# EAGLE library part S-SMP (library apu_module)
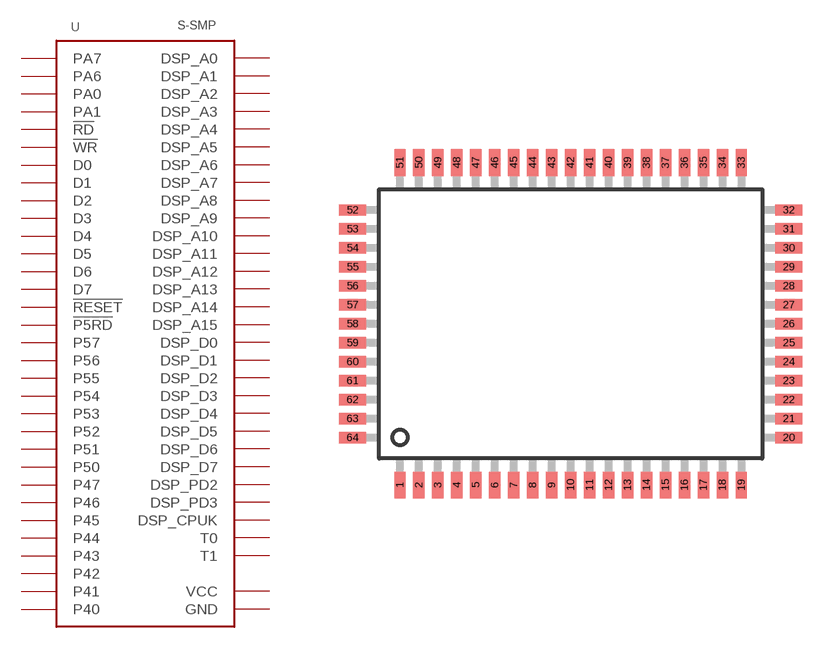
[diagram p0: symbol with the pads of QFP64_SOT319; footprint QFP64_SOT319]

Designator prefix -

## S-SMP  [QFP64_SOT319]
1  DSP_A4
2  DSP_A3
3  DSP_A2
4  DSP_A1
5  DSP_A0
6  DSP_D7
7  DSP_D6
8  DSP_D5
9  DSP_D4
10  DSP_D3
11  DSP_D2
12  DSP_D1
13  DSP_D0
14  DSP_PD3
15  DSP_PD2
16  DSP_CPUK
17  !P5RD
18  P57
19  P56
20  P55
21  P54
22  P53
23  P52
24  P51
25  P50
26  GND
27  P47
28  P46
29  P45
30  P44
31  P43
32  P42
33  P41
34  P40
35  T1
36  T0
37  !RESET
38  D7
39  D6
40  D5
41  D4
42  D3
43  D2
44  D1
45  D0
46  !RD
47  !WR
48  PA1
49  PA0
50  PA6
51  PA7
52  DSP_A15
53  DSP_A14
54  DSP_A13
55  DSP_A12
56  DSP_A11
57  VCC
58  GND
59  DSP_A10
60  DSP_A9
61  DSP_A8
62  DSP_A7
63  DSP_A6
64  DSP_A5

## Footprint QFP64_SOT319 (pad centres in mm)
Plastic Quad Flat Package SOT319-1/-2/-5 64 leads source: http://www.semiconductors.philips.com/ LQFP-MSQFP-QFP-SQFP-TQFP-REFLOW.pdf
smd 0.6 x 1.4: 1 -9,-8.5; 2 -8,-8.5; 3 -7,-8.5; 4 -6,-8.5; 5 -5,-8.5; 6 -4,-8.5; 7 -3,-8.5; 8 -2,-8.5; 9 -1,-8.5; 10 0,-8.5; 11 1,-8.5; 12 2,-8.5; 13 3,-8.5; 14 4,-8.5; 15 5,-8.5; 16 6,-8.5; 17 7,-8.5; 18 8,-8.5; 19 9,-8.5; 33 9,8.5; 34 8,8.5; 35 7,8.5; 36 6,8.5; 37 5,8.5; 38 4,8.5; 39 3,8.5; 40 2,8.5; 41 1,8.5; 42 0,8.5; 43 -1,8.5; 44 -2,8.5; 45 -3,8.5; 46 -4,8.5; 47 -5,8.5; 48 -6,8.5; 49 -7,8.5; 50 -8,8.5; 51 -9,8.5
smd 1.4 x 0.6: 20 11.5,-6; 21 11.5,-5; 22 11.5,-4; 23 11.5,-3; 24 11.5,-2; 25 11.5,-1; 26 11.5,0; 27 11.5,1; 28 11.5,2; 29 11.5,3; 30 11.5,4; 31 11.5,5; 32 11.5,6; 52 -11.5,6; 53 -11.5,5; 54 -11.5,4; 55 -11.5,3; 56 -11.5,2; 57 -11.5,1; 58 -11.5,0; 59 -11.5,-1; 60 -11.5,-2; 61 -11.5,-3; 62 -11.5,-4; 63 -11.5,-5; 64 -11.5,-6